# Altium schematic symbol library TPS2421-SO8.SchLib: 1 symbol
Pins are listed as number, name and electrical type; pins without a type are passive.

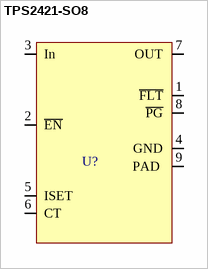
[diagram p0: symbol TPS2421-SO8]

## TPS2421-SO8
designator U?  (value not drawn)
pins: 1 ~{FLT}, 2 ~{EN}, 3 In, 4 GND, 5 ISET, 6 CT, 7 OUT, 8 ~{PG}, 9 PAD 